# EAGLE library part USB-MICRO-B-SMD-FLAT-SIDE (library USB Connector)
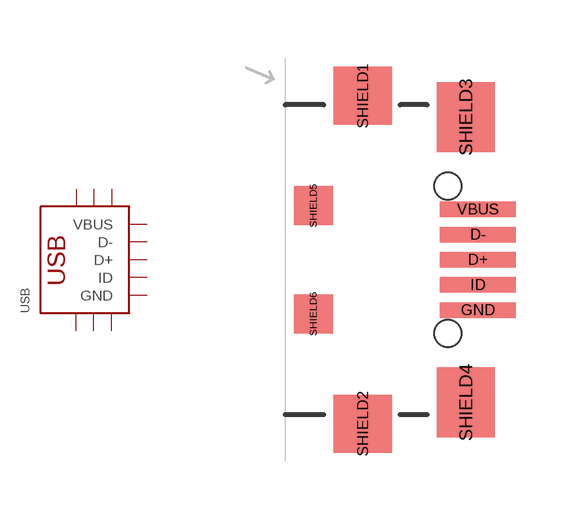
[diagram p3: symbol with the pads of USB-MICRO-B-SMD-FLAT-SIDE; footprint USB-MICRO-B-SMD-FLAT-SIDE]

Designator prefix USB

## USB-MICRO-B-SMD-FLAT-SIDE  [USB-MICRO-B-SMD-FLAT-SIDE]
D+  D+
D-  D-
GND  GND
ID  ID
SHIELD1  SHIELD
SHIELD2  SHIELD
SHIELD3  SHIELD
SHIELD4  SHIELD
SHIELD5  SHIELD
SHIELD6  SHIELD
VBUS  VBUS

## Footprint USB-MICRO-B-SMD-FLAT-SIDE (pad centres in mm)
smd 1.95 x 0.4: D+ 2.975,0; D- 2.975,0.65; GND 2.975,-1.3; ID 2.975,-0.65; VBUS 2.975,1.3
smd 1.5 x 1.5: SHIELD1 0,4.235; SHIELD2 0,-4.235
smd 1.5 x 1.8: SHIELD3 2.667,3.685; SHIELD4 2.667,-3.685
smd 1 x 1: SHIELD5 -1.27,1.4; SHIELD6 -1.27,-1.4
hole 0.7 at 2.2,1.9
hole 0.7 at 2.2,-1.9